# Altium footprint library Connector_JST.PcbLib: 558 footprints (part 17 of 35)
Each footprint in its own frame and in the unit in brackets; x right, y up, seen from the top. Pads: shape width x height; smd on the part's side, far side on the other; paste and mask are expansions set on the pad; w line width, h text height; cw(c..) or ccw(c..) is an arc to the next point about the centre after c.
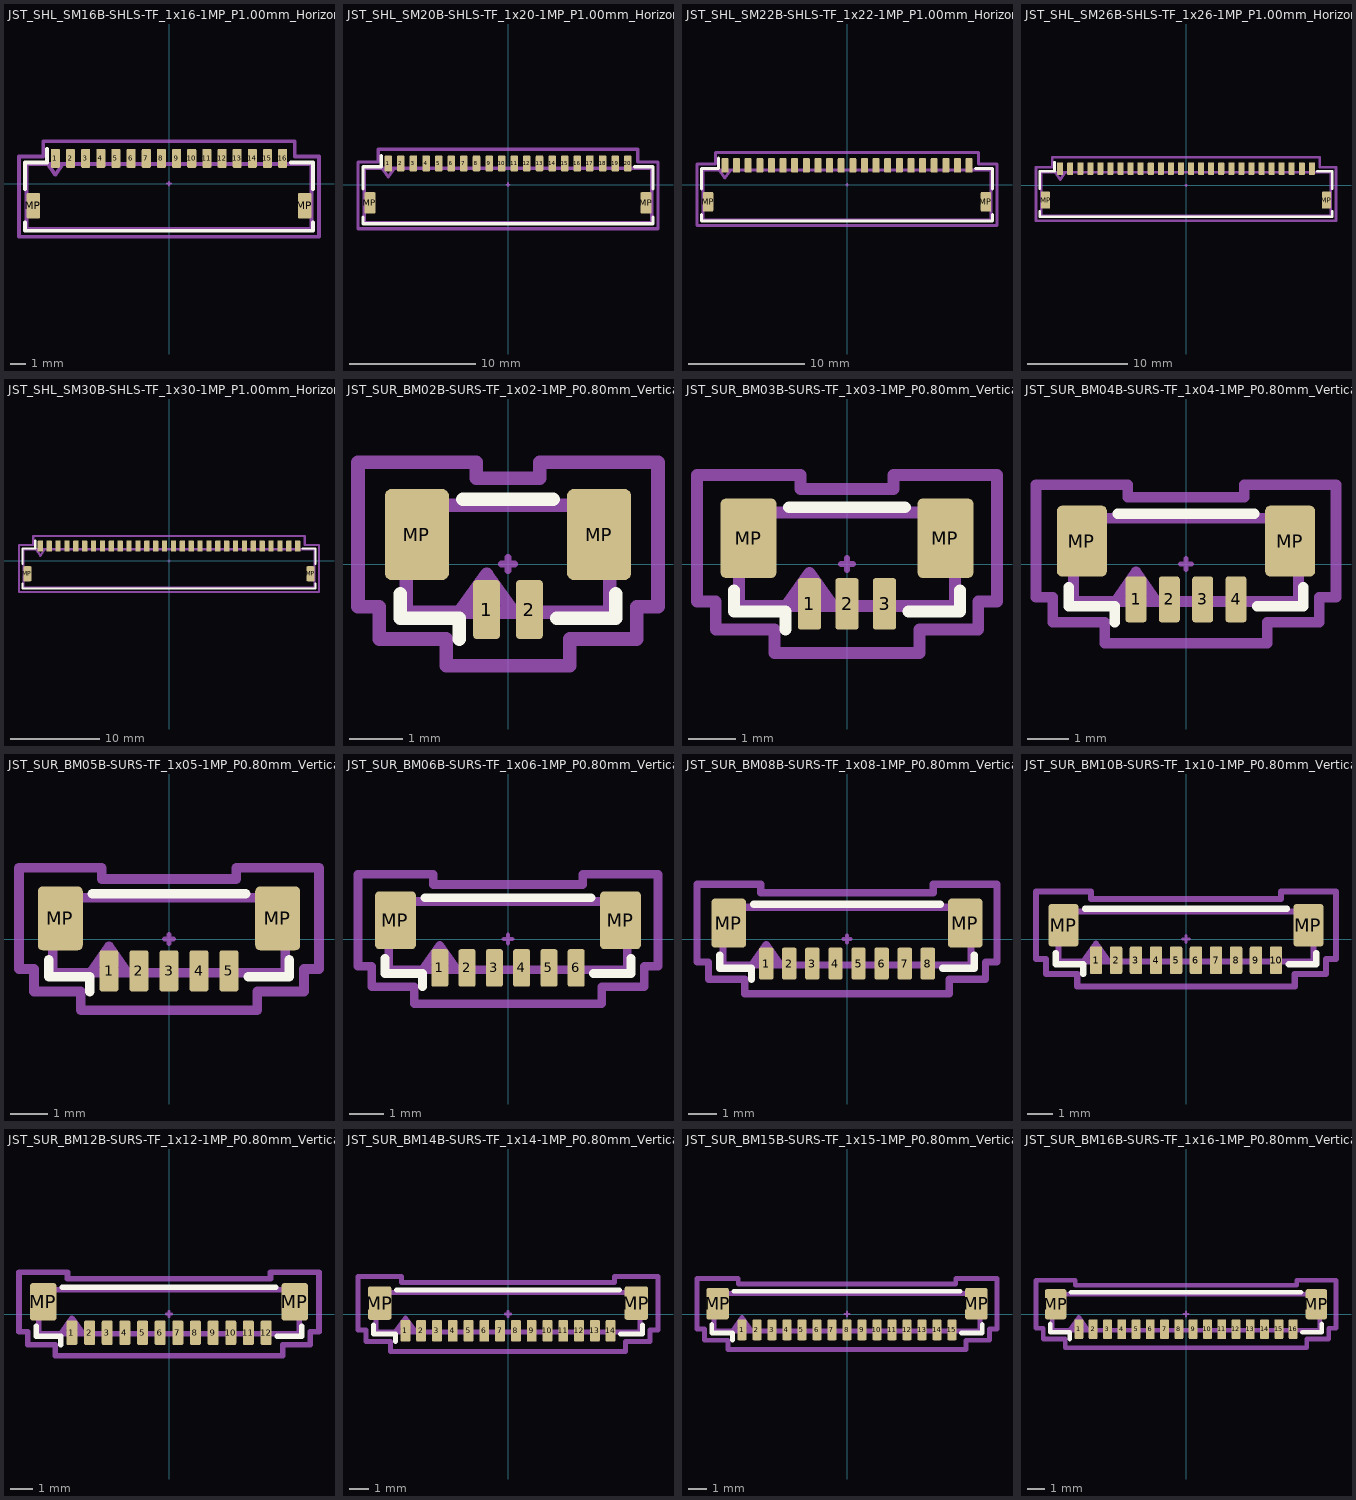
[diagram p16: the footprints below, top view; thin cyan lines are the x and y axes]

## JST_SHL_SM16B-SHLS-TF_1x16-1MP_P1.00mm_Horizontal [mm] "JST_SHL_SM16B-SHLS-TF_1x16-1MP_P1.00mm_Horizontal"
pads (18):
  rrect25% 0.6x1.25 smd: 1(-7.5,1.675) 2(-6.5,1.675) 3(-5.5,1.675) 4(-4.5,1.675) 5(-3.5,1.675) 6(-2.5,1.675) 7(-1.5,1.675) 8(-0.5,1.675) 9(0.5,1.675) 10(1.5,1.675) 11(2.5,1.675) 12(3.5,1.675) 13(4.5,1.675) 14(5.5,1.675) 15(6.5,1.675) 16(7.5,1.675)
  rrect25% 0.9x1.7 smd: MP(-8.95,-1.45) MP(8.95,-1.45)
F.SilkS:
  lines w0.254: -9.51,-2.56 -9.51,-3.11 9.51,-3.11 9.51,-2.56 ; -9.51,-0.34 -9.51,1.41 -8.06,1.41 -8.06,2.3 ; 8.06,1.41 9.51,1.41 9.51,-0.34
Top Component Center:
  lines w0.127: -0.127,0 0.127,0 ; 0,-0.127 0,0.127
Top Assembly:
  lines w0.254: -8,1.3 -7.5,0.593 -7,1.3 ; -9.4,-3 9.4,-3 9.4,1.3 -9.4,1.3 -9.4,-3
Top Courtyard:
  lines w0.254: -9.9,-3.5 9.9,-3.5 9.9,1.8 8.3,1.8 8.3,2.8 -8.3,2.8 -8.3,1.8 -9.9,1.8 -9.9,-3.5
Top Designator:
  text ".Designator" at -3.43,-0.344 h1.52

## JST_SHL_SM20B-SHLS-TF_1x20-1MP_P1.00mm_Horizontal [mm] "JST_SHL_SM20B-SHLS-TF_1x20-1MP_P1.00mm_Horizontal"
pads (22):
  rrect25% 0.6x1.25 smd: 1(-9.5,1.675) 2(-8.5,1.675) 3(-7.5,1.675) 4(-6.5,1.675) 5(-5.5,1.675) 6(-4.5,1.675) 7(-3.5,1.675) 8(-2.5,1.675) 9(-1.5,1.675) 10(-0.5,1.675) 11(0.5,1.675) 12(1.5,1.675) 13(2.5,1.675) 14(3.5,1.675) 15(4.5,1.675) 16(5.5,1.675) 17(6.5,1.675) 18(7.5,1.675) 19(8.5,1.675) 20(9.5,1.675)
  rrect25% 0.9x1.7 smd: MP(-10.95,-1.45) MP(10.95,-1.45)
F.SilkS:
  lines w0.254: -11.51,-2.56 -11.51,-3.11 11.51,-3.11 11.51,-2.56 ; -11.51,-0.34 -11.51,1.41 -10.06,1.41 -10.06,2.3 ; 10.06,1.41 11.51,1.41 11.51,-0.34
Top Component Center:
  lines w0.127: -0.127,0 0.127,0 ; 0,-0.127 0,0.127
Top Assembly:
  lines w0.254: -10,1.3 -9.5,0.593 -9,1.3 ; -11.4,-3 -11.4,1.3 11.4,1.3 11.4,-3 -11.4,-3
Top Courtyard:
  lines w0.254: -11.9,-3.5 -11.9,1.8 -10.3,1.8 -10.3,2.8 10.3,2.8 10.3,1.8 11.9,1.8 11.9,-3.5 -11.9,-3.5
Top Designator:
  text ".Designator" at -3.43,-0.344 h1.52

## JST_SHL_SM22B-SHLS-TF_1x22-1MP_P1.00mm_Horizontal [mm] "JST_SHL_SM22B-SHLS-TF_1x22-1MP_P1.00mm_Horizontal"
pads (24):
  rrect25% 0.6x1.25 smd: 1(-10.5,1.675) 2(-9.5,1.675) 3(-8.5,1.675) 4(-7.5,1.675) 5(-6.5,1.675) 6(-5.5,1.675) 7(-4.5,1.675) 8(-3.5,1.675) 9(-2.5,1.675) 10(-1.5,1.675) 11(-0.5,1.675) 12(0.5,1.675) 13(1.5,1.675) 14(2.5,1.675) 15(3.5,1.675) 16(4.5,1.675) 17(5.5,1.675) 18(6.5,1.675) 19(7.5,1.675) 20(8.5,1.675) 21(9.5,1.675) 22(10.5,1.675)
  rrect25% 0.9x1.7 smd: MP(-11.95,-1.45) MP(11.95,-1.45)
F.SilkS:
  lines w0.254: -12.51,-2.56 -12.51,-3.11 12.51,-3.11 12.51,-2.56 ; -12.51,-0.34 -12.51,1.41 -11.06,1.41 -11.06,2.3 ; 11.06,1.41 12.51,1.41 12.51,-0.34
Top Component Center:
  lines w0.127: -0.127,0 0.127,0 ; 0,-0.127 0,0.127
Top Assembly:
  lines w0.254: -11,1.3 -10.5,0.593 -10,1.3 ; -12.4,-3 -12.4,1.3 12.4,1.3 12.4,-3 -12.4,-3
Top Courtyard:
  lines w0.254: -12.9,-3.5 -12.9,1.8 -11.3,1.8 -11.3,2.8 11.3,2.8 11.3,1.8 12.9,1.8 12.9,-3.5 -12.9,-3.5
Top Designator:
  text ".Designator" at -3.43,-0.344 h1.52

## JST_SHL_SM26B-SHLS-TF_1x26-1MP_P1.00mm_Horizontal [mm] "JST_SHL_SM26B-SHLS-TF_1x26-1MP_P1.00mm_Horizontal"
pads (28):
  rrect25% 0.6x1.25 smd: 1(-12.5,1.675) 2(-11.5,1.675) 3(-10.5,1.675) 4(-9.5,1.675) 5(-8.5,1.675) 6(-7.5,1.675) 7(-6.5,1.675) 8(-5.5,1.675) 9(-4.5,1.675) 10(-3.5,1.675) 11(-2.5,1.675) 12(-1.5,1.675) 13(-0.5,1.675) 14(0.5,1.675) 15(1.5,1.675) 16(2.5,1.675) 17(3.5,1.675) 18(4.5,1.675) 19(5.5,1.675) 20(6.5,1.675) 21(7.5,1.675) 22(8.5,1.675) 23(9.5,1.675) 24(10.5,1.675) 25(11.5,1.675) 26(12.5,1.675)
  rrect25% 0.9x1.7 smd: MP(-13.95,-1.45) MP(13.95,-1.45)
F.SilkS:
  lines w0.254: -14.51,-2.56 -14.51,-3.11 14.51,-3.11 14.51,-2.56 ; -14.51,-0.34 -14.51,1.41 -13.06,1.41 -13.06,2.3 ; 13.06,1.41 14.51,1.41 14.51,-0.34
Top Component Center:
  lines w0.127: -0.127,0 0.127,0 ; 0,-0.127 0,0.127
Top Assembly:
  lines w0.254: -13,1.3 -12.5,0.593 -12,1.3 ; -14.4,-3 -14.4,1.3 14.4,1.3 14.4,-3 -14.4,-3
Top Courtyard:
  lines w0.254: -14.9,-3.5 -14.9,1.8 -13.3,1.8 -13.3,2.8 13.3,2.8 13.3,1.8 14.9,1.8 14.9,-3.5 -14.9,-3.5
Top Designator:
  text ".Designator" at -3.43,-0.344 h1.52

## JST_SHL_SM30B-SHLS-TF_1x30-1MP_P1.00mm_Horizontal [mm] "JST_SHL_SM30B-SHLS-TF_1x30-1MP_P1.00mm_Horizontal"
pads (32):
  rrect25% 0.6x1.25 smd: 1(-14.5,1.675) 2(-13.5,1.675) 3(-12.5,1.675) 4(-11.5,1.675) 5(-10.5,1.675) 6(-9.5,1.675) 7(-8.5,1.675) 8(-7.5,1.675) 9(-6.5,1.675) 10(-5.5,1.675) 11(-4.5,1.675) 12(-3.5,1.675) 13(-2.5,1.675) 14(-1.5,1.675) 15(-0.5,1.675) 16(0.5,1.675) 17(1.5,1.675) 18(2.5,1.675) 19(3.5,1.675) 20(4.5,1.675) 21(5.5,1.675) 22(6.5,1.675) 23(7.5,1.675) 24(8.5,1.675) 25(9.5,1.675) 26(10.5,1.675) 27(11.5,1.675) 28(12.5,1.675) 29(13.5,1.675) 30(14.5,1.675)
  rrect25% 0.9x1.7 smd: MP(-15.95,-1.45) MP(15.95,-1.45)
F.SilkS:
  lines w0.254: -16.51,-2.56 -16.51,-3.11 16.51,-3.11 16.51,-2.56 ; -16.51,-0.34 -16.51,1.41 -15.06,1.41 -15.06,2.3 ; 15.06,1.41 16.51,1.41 16.51,-0.34
Top Component Center:
  lines w0.127: -0.127,0 0.127,0 ; 0,-0.127 0,0.127
Top Assembly:
  lines w0.254: -15,1.3 -14.5,0.593 -14,1.3 ; -16.4,-3 -16.4,1.3 16.4,1.3 16.4,-3 -16.4,-3
Top Courtyard:
  lines w0.254: -16.9,-3.5 -16.9,1.8 -15.3,1.8 -15.3,2.8 15.3,2.8 15.3,1.8 16.9,1.8 16.9,-3.5 -16.9,-3.5
Top Designator:
  text ".Designator" at -3.43,-0.344 h1.52

## JST_SUR_BM02B-SURS-TF_1x02-1MP_P0.80mm_Vertical [mm] "JST_SUR_BM02B-SURS-TF_1x02-1MP_P0.80mm_Vertical"
pads (4):
  rrect25% 0.5x1.1 smd: 1(-0.4,-0.85) 2(0.4,-0.85)
  rrect21% 1.2x1.7 smd: MP(-1.7,0.55) MP(1.7,0.55)
F.SilkS:
  lines w0.254: -2.01,-0.56 -2.01,-1.01 -0.91,-1.01 -0.91,-1.4 ; -0.84,1.21 0.84,1.21 ; 0.91,-1.01 2.01,-1.01 2.01,-0.56
Top Component Center:
  lines w0.127: -0.127,0 0.127,0 ; 0,-0.127 0,0.127
Top Assembly:
  lines w0.254: -0.9,-0.9 -0.4,-0.193 0.1,-0.9 ; -1.9,-0.9 1.9,-0.9 1.9,1.1 -1.9,1.1 -1.9,-0.9
Top Courtyard:
  lines w0.254: -2.8,-0.8 -2.4,-0.8 -2.4,-1.4 -1.15,-1.4 -1.15,-1.9 1.15,-1.9 1.15,-1.4 2.4,-1.4 2.4,-0.8 2.8,-0.8 2.8,1.9 0.59,1.9 0.59,1.6 -0.59,1.6 -0.59,1.9 -2.8,1.9 -2.8,-0.8
Top Designator:
  text ".Designator" at -3.43,-0.344 h1.52

## JST_SUR_BM03B-SURS-TF_1x03-1MP_P0.80mm_Vertical [mm] "JST_SUR_BM03B-SURS-TF_1x03-1MP_P0.80mm_Vertical"
pads (5):
  rrect25% 0.5x1.1 smd: 1(-0.8,-0.85) 2(0,-0.85) 3(0.8,-0.85)
  rrect21% 1.2x1.7 smd: MP(-2.1,0.55) MP(2.1,0.55)
F.SilkS:
  lines w0.254: -2.41,-0.56 -2.41,-1.01 -1.31,-1.01 -1.31,-1.4 ; -1.24,1.21 1.24,1.21 ; 1.31,-1.01 2.41,-1.01 2.41,-0.56
Top Component Center:
  lines w0.127: -0.127,0 0.127,0 ; 0,-0.127 0,0.127
Top Assembly:
  lines w0.254: -1.3,-0.9 -0.8,-0.193 -0.3,-0.9 ; -2.3,-0.9 2.3,-0.9 2.3,1.1 -2.3,1.1 -2.3,-0.9
Top Courtyard:
  lines w0.254: -3.2,-0.8 -2.8,-0.8 -2.8,-1.4 -1.55,-1.4 -1.55,-1.9 1.55,-1.9 1.55,-1.4 2.8,-1.4 2.8,-0.8 3.2,-0.8 3.2,1.9 0.99,1.9 0.99,1.6 -0.99,1.6 -0.99,1.9 -3.2,1.9 -3.2,-0.8
Top Designator:
  text ".Designator" at -3.43,-0.344 h1.52

## JST_SUR_BM04B-SURS-TF_1x04-1MP_P0.80mm_Vertical [mm] "JST_SUR_BM04B-SURS-TF_1x04-1MP_P0.80mm_Vertical"
pads (6):
  rrect25% 0.5x1.1 smd: 1(-1.2,-0.85) 2(-0.4,-0.85) 3(0.4,-0.85) 4(1.2,-0.85)
  rrect21% 1.2x1.7 smd: MP(-2.5,0.55) MP(2.5,0.55)
F.SilkS:
  lines w0.254: -2.81,-0.56 -2.81,-1.01 -1.71,-1.01 -1.71,-1.4 ; -1.64,1.21 1.64,1.21 ; 1.71,-1.01 2.81,-1.01 2.81,-0.56
Top Component Center:
  lines w0.127: -0.127,0 0.127,0 ; 0,-0.127 0,0.127
Top Assembly:
  lines w0.254: -1.7,-0.9 -1.2,-0.193 -0.7,-0.9 ; -2.7,-0.9 -2.7,1.1 2.7,1.1 2.7,-0.9 -2.7,-0.9
Top Courtyard:
  lines w0.254: -3.6,-0.8 -3.6,1.9 -1.4,1.9 -1.4,1.6 1.4,1.6 1.4,1.9 3.6,1.9 3.6,-0.8 3.2,-0.8 3.2,-1.4 1.95,-1.4 1.95,-1.9 -1.95,-1.9 -1.95,-1.4 -3.2,-1.4 -3.2,-0.8 -3.6,-0.8
Top Designator:
  text ".Designator" at -3.43,-0.344 h1.52

## JST_SUR_BM05B-SURS-TF_1x05-1MP_P0.80mm_Vertical [mm] "JST_SUR_BM05B-SURS-TF_1x05-1MP_P0.80mm_Vertical"
pads (7):
  rrect25% 0.5x1.1 smd: 1(-1.6,-0.85) 2(-0.8,-0.85) 3(0,-0.85) 4(0.8,-0.85) 5(1.6,-0.85)
  rrect21% 1.2x1.7 smd: MP(-2.9,0.55) MP(2.9,0.55)
F.SilkS:
  lines w0.254: -3.21,-0.56 -3.21,-1.01 -2.11,-1.01 -2.11,-1.4 ; -2.04,1.21 2.04,1.21 ; 2.11,-1.01 3.21,-1.01 3.21,-0.56
Top Component Center:
  lines w0.127: -0.127,0 0.127,0 ; 0,-0.127 0,0.127
Top Assembly:
  lines w0.254: -2.1,-0.9 -1.6,-0.193 -1.1,-0.9 ; -3.1,-0.9 -3.1,1.1 3.1,1.1 3.1,-0.9 -3.1,-0.9
Top Courtyard:
  lines w0.254: -4,-0.8 -4,1.9 -1.79,1.9 -1.79,1.6 1.79,1.6 1.79,1.9 4,1.9 4,-0.8 3.6,-0.8 3.6,-1.4 2.35,-1.4 2.35,-1.9 -2.35,-1.9 -2.35,-1.4 -3.6,-1.4 -3.6,-0.8 -4,-0.8
Top Designator:
  text ".Designator" at -3.439,-0.352 h1.52

## JST_SUR_BM06B-SURS-TF_1x06-1MP_P0.80mm_Vertical [mm] "JST_SUR_BM06B-SURS-TF_1x06-1MP_P0.80mm_Vertical"
pads (8):
  rrect25% 0.5x1.1 smd: 1(-2,-0.85) 2(-1.2,-0.85) 3(-0.4,-0.85) 4(0.4,-0.85) 5(1.2,-0.85) 6(2,-0.85)
  rrect21% 1.2x1.7 smd: MP(-3.3,0.55) MP(3.3,0.55)
F.SilkS:
  lines w0.254: -3.61,-0.56 -3.61,-1.01 -2.51,-1.01 -2.51,-1.4 ; -2.44,1.21 2.44,1.21 ; 2.51,-1.01 3.61,-1.01 3.61,-0.56
Top Component Center:
  lines w0.127: -0.127,0 0.127,0 ; 0,-0.127 0,0.127
Top Assembly:
  lines w0.254: -2.5,-0.9 -2,-0.193 -1.5,-0.9 ; -3.5,-0.9 3.5,-0.9 3.5,1.1 -3.5,1.1 -3.5,-0.9
Top Courtyard:
  lines w0.254: -4.4,-0.8 -4,-0.8 -4,-1.4 -2.75,-1.4 -2.75,-1.9 2.75,-1.9 2.75,-1.4 4,-1.4 4,-0.8 4.4,-0.8 4.4,1.9 2.19,1.9 2.19,1.6 -2.19,1.6 -2.19,1.9 -4.4,1.9 -4.4,-0.8
Top Designator:
  text ".Designator" at -3.43,-0.344 h1.52

## JST_SUR_BM08B-SURS-TF_1x08-1MP_P0.80mm_Vertical [mm] "JST_SUR_BM08B-SURS-TF_1x08-1MP_P0.80mm_Vertical"
pads (10):
  rrect25% 0.5x1.1 smd: 1(-2.8,-0.85) 2(-2,-0.85) 3(-1.2,-0.85) 4(-0.4,-0.85) 5(0.4,-0.85) 6(1.2,-0.85) 7(2,-0.85) 8(2.8,-0.85)
  rrect21% 1.2x1.7 smd: MP(-4.1,0.55) MP(4.1,0.55)
F.SilkS:
  lines w0.254: -4.41,-0.56 -4.41,-1.01 -3.31,-1.01 -3.31,-1.4 ; -3.24,1.21 3.24,1.21 ; 3.31,-1.01 4.41,-1.01 4.41,-0.56
Top Component Center:
  lines w0.127: -0.127,0 0.127,0 ; 0,-0.127 0,0.127
Top Assembly:
  lines w0.254: -3.3,-0.9 -2.8,-0.193 -2.3,-0.9 ; -4.3,-0.9 4.3,-0.9 4.3,1.1 -4.3,1.1 -4.3,-0.9
Top Courtyard:
  lines w0.254: -5.2,-0.8 -4.8,-0.8 -4.8,-1.4 -3.55,-1.4 -3.55,-1.9 3.55,-1.9 3.55,-1.4 4.8,-1.4 4.8,-0.8 5.2,-0.8 5.2,1.9 2.99,1.9 2.99,1.6 -2.99,1.6 -2.99,1.9 -5.2,1.9 -5.2,-0.8
Top Designator:
  text ".Designator" at -3.43,-0.344 h1.52

## JST_SUR_BM10B-SURS-TF_1x10-1MP_P0.80mm_Vertical [mm] "JST_SUR_BM10B-SURS-TF_1x10-1MP_P0.80mm_Vertical"
pads (12):
  rrect25% 0.5x1.1 smd: 1(-3.6,-0.85) 2(-2.8,-0.85) 3(-2,-0.85) 4(-1.2,-0.85) 5(-0.4,-0.85) 6(0.4,-0.85) 7(1.2,-0.85) 8(2,-0.85) 9(2.8,-0.85) 10(3.6,-0.85)
  rrect21% 1.2x1.7 smd: MP(-4.9,0.55) MP(4.9,0.55)
F.SilkS:
  lines w0.254: -5.21,-0.56 -5.21,-1.01 -4.11,-1.01 -4.11,-1.4 ; -4.04,1.21 4.04,1.21 ; 4.11,-1.01 5.21,-1.01 5.21,-0.56
Top Component Center:
  lines w0.127: -0.127,0 0.127,0 ; 0,-0.127 0,0.127
Top Assembly:
  lines w0.254: -4.1,-0.9 -3.6,-0.193 -3.1,-0.9 ; -5.1,-0.9 5.1,-0.9 5.1,1.1 -5.1,1.1 -5.1,-0.9
Top Courtyard:
  lines w0.254: -6,-0.8 -5.6,-0.8 -5.6,-1.4 -4.35,-1.4 -4.35,-1.9 4.35,-1.9 4.35,-1.4 5.6,-1.4 5.6,-0.8 6,-0.8 6,1.9 3.8,1.9 3.8,1.6 -3.8,1.6 -3.8,1.9 -6,1.9 -6,-0.8
Top Designator:
  text ".Designator" at -3.43,-0.344 h1.52

## JST_SUR_BM12B-SURS-TF_1x12-1MP_P0.80mm_Vertical [mm] "JST_SUR_BM12B-SURS-TF_1x12-1MP_P0.80mm_Vertical"
pads (14):
  rrect25% 0.5x1.1 smd: 1(-4.4,-0.85) 2(-3.6,-0.85) 3(-2.8,-0.85) 4(-2,-0.85) 5(-1.2,-0.85) 6(-0.4,-0.85) 7(0.4,-0.85) 8(1.2,-0.85) 9(2,-0.85) 10(2.8,-0.85) 11(3.6,-0.85) 12(4.4,-0.85)
  rrect21% 1.2x1.7 smd: MP(-5.7,0.55) MP(5.7,0.55)
F.SilkS:
  lines w0.254: -6.01,-0.56 -6.01,-1.01 -4.91,-1.01 -4.91,-1.4 ; -4.84,1.21 4.84,1.21 ; 4.91,-1.01 6.01,-1.01 6.01,-0.56
Top Component Center:
  lines w0.127: -0.127,0 0.127,0 ; 0,-0.127 0,0.127
Top Assembly:
  lines w0.254: -4.9,-0.9 -4.4,-0.193 -3.9,-0.9 ; -5.9,-0.9 5.9,-0.9 5.9,1.1 -5.9,1.1 -5.9,-0.9
Top Courtyard:
  lines w0.254: -6.8,-0.8 -6.4,-0.8 -6.4,-1.4 -5.15,-1.4 -5.15,-1.9 5.15,-1.9 5.15,-1.4 6.4,-1.4 6.4,-0.8 6.8,-0.8 6.8,1.9 4.6,1.9 4.6,1.6 -4.6,1.6 -4.6,1.9 -6.8,1.9 -6.8,-0.8
Top Designator:
  text ".Designator" at -3.43,-0.344 h1.52

## JST_SUR_BM14B-SURS-TF_1x14-1MP_P0.80mm_Vertical [mm] "JST_SUR_BM14B-SURS-TF_1x14-1MP_P0.80mm_Vertical"
pads (16):
  rrect25% 0.5x1.1 smd: 1(-5.2,-0.85) 2(-4.4,-0.85) 3(-3.6,-0.85) 4(-2.8,-0.85) 5(-2,-0.85) 6(-1.2,-0.85) 7(-0.4,-0.85) 8(0.4,-0.85) 9(1.2,-0.85) 10(2,-0.85) 11(2.8,-0.85) 12(3.6,-0.85) 13(4.4,-0.85) 14(5.2,-0.85)
  rrect21% 1.2x1.7 smd: MP(-6.5,0.55) MP(6.5,0.55)
F.SilkS:
  lines w0.254: -6.81,-0.56 -6.81,-1.01 -5.71,-1.01 -5.71,-1.4 ; -5.64,1.21 5.64,1.21 ; 5.71,-1.01 6.81,-1.01 6.81,-0.56
Top Component Center:
  lines w0.127: -0.127,0 0.127,0 ; 0,-0.127 0,0.127
Top Assembly:
  lines w0.254: -5.7,-0.9 -5.2,-0.193 -4.7,-0.9 ; -6.7,-0.9 -6.7,1.1 6.7,1.1 6.7,-0.9 -6.7,-0.9
Top Courtyard:
  lines w0.254: -7.6,-0.8 -7.6,1.9 -5.4,1.9 -5.4,1.6 5.4,1.6 5.4,1.9 7.6,1.9 7.6,-0.8 7.2,-0.8 7.2,-1.4 5.95,-1.4 5.95,-1.9 -5.95,-1.9 -5.95,-1.4 -7.2,-1.4 -7.2,-0.8 -7.6,-0.8
Top Designator:
  text ".Designator" at -3.43,-0.344 h1.52

## JST_SUR_BM15B-SURS-TF_1x15-1MP_P0.80mm_Vertical [mm] "JST_SUR_BM15B-SURS-TF_1x15-1MP_P0.80mm_Vertical"
pads (17):
  rrect25% 0.5x1.1 smd: 1(-5.6,-0.85) 2(-4.8,-0.85) 3(-4,-0.85) 4(-3.2,-0.85) 5(-2.4,-0.85) 6(-1.6,-0.85) 7(-0.8,-0.85) 8(0,-0.85) 9(0.8,-0.85) 10(1.6,-0.85) 11(2.4,-0.85) 12(3.2,-0.85) 13(4,-0.85) 14(4.8,-0.85) 15(5.6,-0.85)
  rrect21% 1.2x1.7 smd: MP(-6.9,0.55) MP(6.9,0.55)
F.SilkS:
  lines w0.254: -7.21,-0.56 -7.21,-1.01 -6.11,-1.01 -6.11,-1.4 ; -6.04,1.21 6.04,1.21 ; 6.11,-1.01 7.21,-1.01 7.21,-0.56
Top Component Center:
  lines w0.127: -0.127,0 0.127,0 ; 0,-0.127 0,0.127
Top Assembly:
  lines w0.254: -6.1,-0.9 -5.6,-0.193 -5.1,-0.9 ; -7.1,-0.9 -7.1,1.1 7.1,1.1 7.1,-0.9 -7.1,-0.9
Top Courtyard:
  lines w0.254: -8,-0.8 -8,1.9 -5.8,1.9 -5.8,1.6 5.8,1.6 5.8,1.9 8,1.9 8,-0.8 7.6,-0.8 7.6,-1.4 6.35,-1.4 6.35,-1.9 -6.35,-1.9 -6.35,-1.4 -7.6,-1.4 -7.6,-0.8 -8,-0.8
Top Designator:
  text ".Designator" at -3.43,-0.344 h1.52

## JST_SUR_BM16B-SURS-TF_1x16-1MP_P0.80mm_Vertical [mm] "JST_SUR_BM16B-SURS-TF_1x16-1MP_P0.80mm_Vertical"
pads (18):
  rrect25% 0.5x1.1 smd: 1(-6,-0.85) 2(-5.2,-0.85) 3(-4.4,-0.85) 4(-3.6,-0.85) 5(-2.8,-0.85) 6(-2,-0.85) 7(-1.2,-0.85) 8(-0.4,-0.85) 9(0.4,-0.85) 10(1.2,-0.85) 11(2,-0.85) 12(2.8,-0.85) 13(3.6,-0.85) 14(4.4,-0.85) 15(5.2,-0.85) 16(6,-0.85)
  rrect21% 1.2x1.7 smd: MP(-7.3,0.55) MP(7.3,0.55)
F.SilkS:
  lines w0.254: -7.61,-0.56 -7.61,-1.01 -6.51,-1.01 -6.51,-1.4 ; -6.44,1.21 6.44,1.21 ; 6.51,-1.01 7.61,-1.01 7.61,-0.56
Top Component Center:
  lines w0.127: -0.127,0 0.127,0 ; 0,-0.127 0,0.127
Top Assembly:
  lines w0.254: -6.5,-0.9 -6,-0.193 -5.5,-0.9 ; -7.5,-0.9 -7.5,1.1 7.5,1.1 7.5,-0.9 -7.5,-0.9
Top Courtyard:
  lines w0.254: -8.4,-0.8 -8.4,1.9 -6.2,1.9 -6.2,1.6 6.2,1.6 6.2,1.9 8.4,1.9 8.4,-0.8 8,-0.8 8,-1.4 6.75,-1.4 6.75,-1.9 -6.75,-1.9 -6.75,-1.4 -8,-1.4 -8,-0.8 -8.4,-0.8
Top Designator:
  text ".Designator" at -3.43,-0.344 h1.52